# Altium schematic symbol library RK73H1ERTTP8250F.SchLib: 1 symbol
Pins are listed as number, name and electrical type; pins without a type are passive.

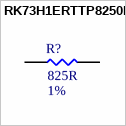
[diagram p0: symbol RK73H1ERTTP8250F]

## RK73H1ERTTP8250F
designator R?  Resistance: 825R  Tolerance: 1%  (hidden comment: RK73H1ERTTP8250F)
RES 825 OHM 1% 1/10W 0402; MFR: KOA Speer Electronics, Inc.; PN: RK73H1ERTTP8250F; Footprint: RES0402; Package: 0402; ComponentLink1Description: Datasheet; ComponentLink1URL: http://www.koaspeer.com/pdfs/RK73-RT.pdf; Power Rating: 1/10W; Supplier 1: DigiKey; Supplier Part Number 1: 2019-RK73H1ERTTP8250FCT-ND
footprint RES0402 (Generic 0402 PCB Footprint)
pins: 1, 2